# Altium schematic symbol library Junctions.SchLib: 29 symbols
Pins are listed as number, name and electrical type; pins without a type are passive.

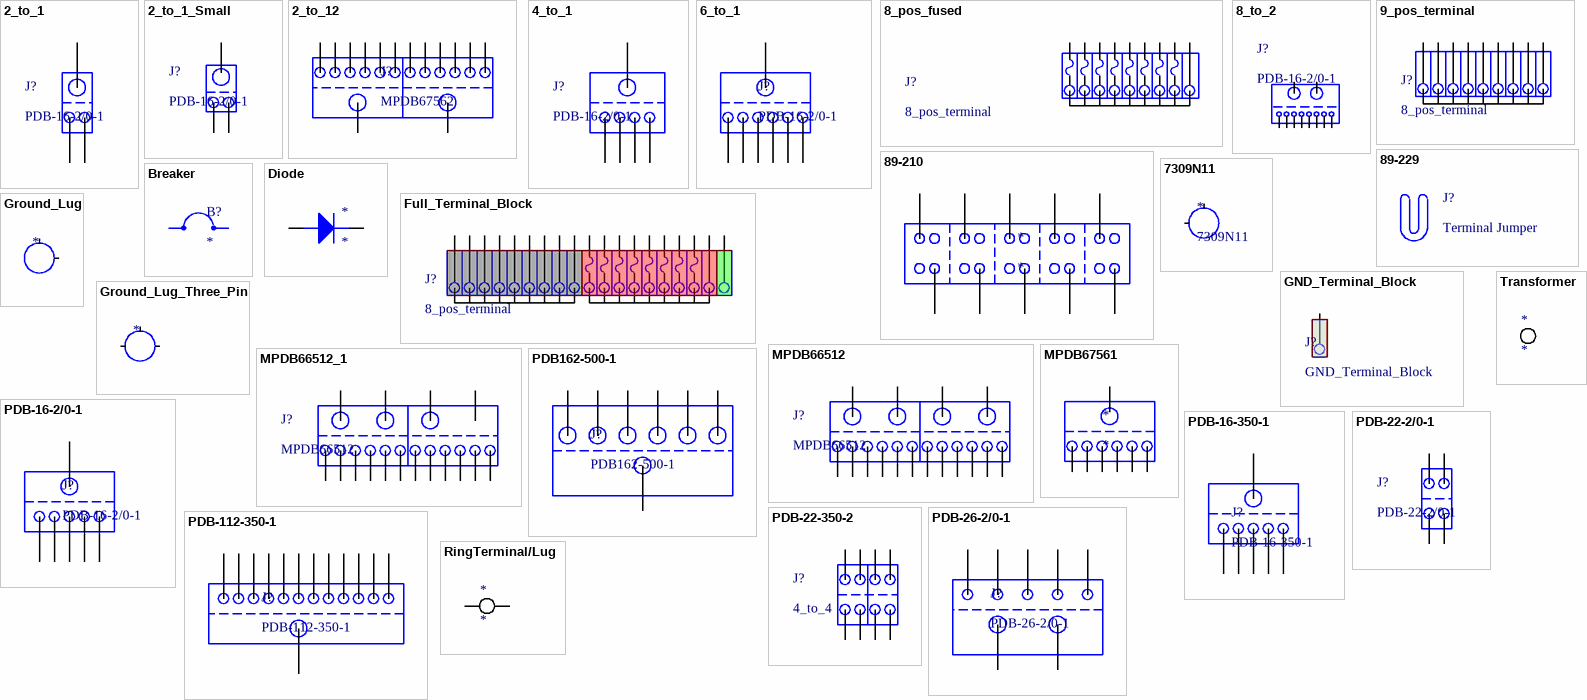
[diagram p0: symbols 2_to_1 to Transformer]

## 2_to_1
designator J?, comment PDB-16-2/0-1
pins: 0, 1, 2

## 2_to_1_Small
designator J?, comment PDB-16-2/0-1
pins: 0, 1, 2

## 2_to_12
designator J?, comment MPDB67562
pins: 0, 0, 1, 1, 1, 1, 1, 1, 1, 2, 3, 4, 5, 5

## 4_to_1
designator J?, comment PDB-16-2/0-1
pins: 0, 1, 2, 4, 5

## 6_to_1
designator J?, comment PDB-16-2/0-1
pins: 0, 1, 2, 3, 4, 5, 5

## 8_pos_fused
designator J?, comment 8_pos_terminal
pins: 3, 3, 3, 3, 3, 3, 3, 3, 3

## 8_to_2
designator J?, comment PDB-16-2/0-1
pins: 0, 0, 1, 2, 3, 4, 5, 5, 5, 5

## 9_pos_terminal
designator J?, comment 8_pos_terminal
pins: 1, 1, 1, 1, 1, 1, 1, 1, 1

## 89-210
designator *
pins: 6, 7, 8, 9, 10, 11, 12, 13, 14, 15

## 89-229
designator J?, comment Terminal Jumper

## 7309N11
designator *
pins: 5, 5

## Breaker
designator B?
pins: 0, 1

## Diode
designator *
pins: 0, 1

## Full_Terminal_Block
designator J?, comment 8_pos_terminal
pins: 1, 1, 1, 1, 1, 1, 1, 1, 1, 1, 3, 3, 3, 3, 3, 3, 3, 3, 3

## GND_Terminal_Block
designator J?
pins: 1

## Ground_Lug
designator *
pins: 5, 5

## Ground_Lug_Three_Pin
designator *
pins: 5, 5, 5

## MPDB66512
designator J?
pins: 0, 0, 0, 0, 1, 1, 1, 1, 1, 1, 2, 2, 2, 2, 2, 2

## MPDB66512_1
designator J?, comment MPDB66512
pins: 0, 0, 0, 0, 1, 1, 1, 1, 1, 1, 2, 2, 2, 2, 2, 2

## MPDB67561
designator *

## PDB162-500-1
designator J?
pins: 0, 0, 0, 0, 0, 0, 0

## PDB-16-2/0-1
designator J?
pins: 0, 1, 2, 3, 4, 5

## PDB-16-350-1
designator J?
pins: 0, 1, 2, 3, 4, 5

## PDB-22-2/0-1
designator J?
pins: 1, 2, 4, 4

## PDB-22-350-2
designator J?, comment 4_to_4
pins: 1, 1, 2, 2, 4, 4, 4, 4

## PDB-26-2/0-1
designator J?
pins: 0, 0, 1, 2, 3, 4, 5

## PDB-112-350-1
designator J?
pins: 0, 1, 1, 1, 2, 2, 2, 3, 3, 4, 4, 5, 5

## RingTerminal/Lug
designator *
pins: 2_12, 2_13

## Transformer
designator *